# EAGLE library part 61003421121 (library Board-to-Board (rev18a))
WR-PHD 2.54mm Dual SMT Pin Header, 34 Pins =>Code : Con_BTB_PHD_2.54_2_61003421121 <http://katalog.we-online.de/media/images/eican/Con_BTB_PHD_2.54_2_6100xx21121_pf2.jpg> Details see: http://katalog.we-online.de/en/em/610_0xx_211_21 Created 2014-05-29, Karrer Zheng 2014 (C) Würth Elektronik
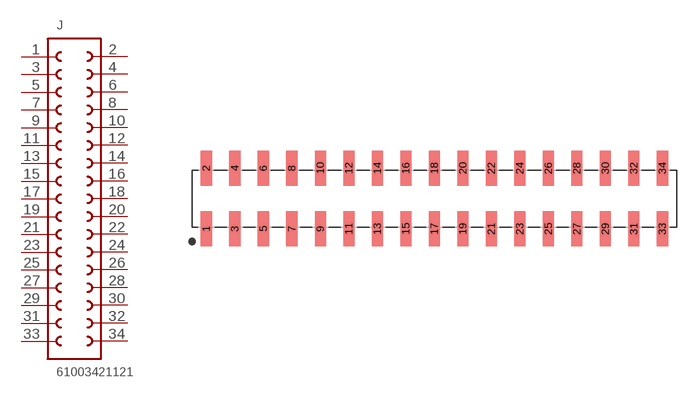
[diagram p86: symbol with the pads of 61003421121; footprint 61003421121]

Designator prefix J

## 61003421121  [61003421121]
1  1  pas
2  34  pas
3  2  pas
4  33  pas
5  3  pas
6  32  pas
7  4  pas
8  31  pas
9  5  pas
10  30  pas
11  6  pas
12  29  pas
13  7  pas
14  28  pas
15  8  pas
16  27  pas
17  9  pas
18  26  pas
19  10  pas
20  25  pas
21  11  pas
22  24  pas
23  12  pas
24  23  pas
25  13  pas
26  22  pas
27  14  pas
28  21  pas
29  15  pas
30  20  pas
31  16  pas
32  19  pas
33  17  pas
34  18  pas

## Footprint 61003421121 (pad centres in mm)
WR-PHD 2.54mm Dual SMT Pin Header, 34 Pins
smd 1 x 3.1: 1 -20.32,-2.7; 2 -20.32,2.7; 3 -17.78,-2.7; 4 -17.78,2.7; 5 -15.24,-2.7; 6 -15.24,2.7; 7 -12.7,-2.7; 8 -12.7,2.7; 9 -10.16,-2.7; 10 -10.16,2.7; 11 -7.62,-2.7; 12 -7.62,2.7; 13 -5.08,-2.7; 14 -5.08,2.7; 15 -2.54,-2.7; 16 -2.54,2.7; 17 0,-2.7; 18 0,2.7; 19 2.54,-2.7; 20 2.54,2.7; 21 5.08,-2.7; 22 5.08,2.7; 23 7.62,-2.7; 24 7.62,2.7; 25 10.16,-2.7; 26 10.16,2.7; 27 12.7,-2.7; 28 12.7,2.7; 29 15.24,-2.7; 30 15.24,2.7; 31 17.78,-2.7; 32 17.78,2.7; 33 20.32,-2.7; 34 20.32,2.7